# Altium integrated library Connectors.IntLib: 10 symbols
Pins are listed as number, name and electrical type; pins without a type are passive.

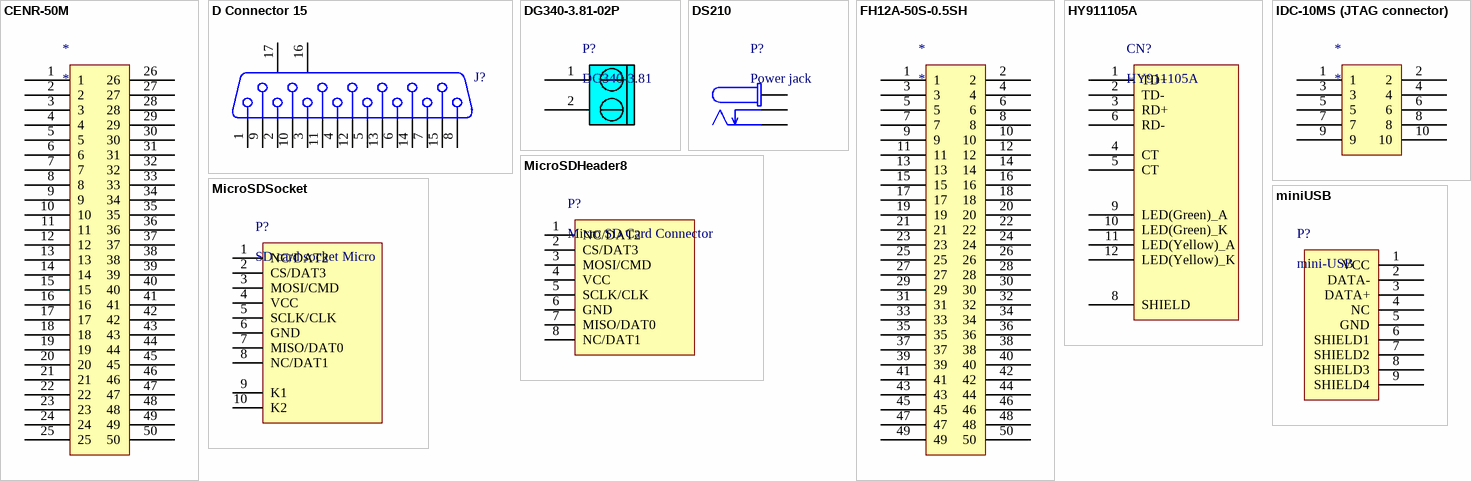
[diagram p0: symbols CENR-50M to miniUSB]

## CENR-50M
designator *
footprint CENR-50M (Centronic 50pin, PCB mount, right angle)
pins: 1, 2, 3, 4, 5, 6, 7, 8, 9, 10, 11, 12, 13, 14, 15, 16, 17, 18, 19, 20, 21, 22, 23, 24, 25, 26, 27, 28, 29, 30, 31, 32, 33, 34, 35, 36, 37, 38, 39, 40, 41, 42, 43, 44, 45, 46, 47, 48, 49, 50

## D Connector 15
designator J?
Receptacle Assembly, 15 Position, Right Angle; PackageDocument: O; Positions: 15; Published: 15-Jun-2001; LatestRevisionDate: 17-Jul-2002; LatestRevisionNote: Re-released for DXP Platform.; DatasheetDocument: 1-Sep-99; PackageReference: 788757; Publisher: Altium Limited; Orientation: Right Angle; Gender: Receptacle
footprint DSUB1.385-2H15 (Connector; D Subminiature; 15 Position; Right Angle; Pitch 1.385 mm)
signal-integrity model Connector
footprint DSUB1.385-2H15 (Connector; D Subminiature; 15 Position; Right Angle; Pitch 1.385 mm)
pins: 1, 2, 3, 4, 5, 6, 7, 8, 9, 10, 11, 12, 13, 14, 15, 16 MH1, 17 MH2

## DG340-3.81-02P
designator P?, comment DG340-3.81
Terminal block
footprint DG340-3.81-02P-00A(H) (Terminal block)
pins: 1, 2

## DS210
designator P?, comment Power jack
DS210 Power Jack
footprint DS-210
pins: 1 (power), 2 (power), 3 (power)

## FH12A-50S-0.5SH
designator *
footprint FH19C-50S-0.5SH
pins: 1, 2, 3, 4, 5, 6, 7, 8, 9, 10, 11, 12, 13, 14, 15, 16, 17, 18, 19, 20, 21, 22, 23, 24, 25, 26, 27, 28, 29, 30, 31, 32, 33, 34, 35, 36, 37, 38, 39, 40, 41, 42, 43, 44, 45, 46, 47, 48, 49, 50

## HY911105A
designator CN?
footprint HR911105A (Ethernet connector)
pins: 1 TD+, 2 TD-, 3 RD+, 4 CT, 5 CT, 6 RD-, 8 SHIELD, 9 LED(Green)_A, 10 LED(Green)_K, 11 LED(Yellow)_A, 12 LED(Yellow)_K

## IDC-10MS (JTAG connector)
designator *
footprint IDC-10MS(MR)
pins: 1, 2, 3, 4, 5, 6, 7, 8, 9, 10

## MicroSDHeader8
designator P?, comment Micro SD Card Connector
footprint WR-CRD SD Micro (WR-CRD SD Micro Header 8)
pins: 1 NC/DAT2, 2 CS/DAT3, 3 MOSI/CMD, 4 VCC, 5 SCLK/CLK, 6 GND, 7 MISO/DAT0, 8 NC/DAT1

## MicroSDSocket
designator P?, comment SD card socket Micro
footprint MicroSDsocket (SD-card socket Micro)
pins: 1 NC/DAT2, 2 CS/DAT3, 3 MOSI/CMD, 4 VCC, 5 SCLK/CLK, 6 GND, 7 MISO/DAT0, 8 NC/DAT1, 9 K1, 10 K2

## miniUSB
designator P?, comment mini-USB
footprint USB/SM0.8-6H5 (Connector; USB2.0, Type B, SM; 5 Position; Right Angle)
pins: 1 VCC, 2 DATA-, 3 DATA+, 4 NC, 5 GND, 6 SHIELD1, 7 SHIELD2, 8 SHIELD3, 9 SHIELD4